# EAGLE library part HIP4080 (library audioint)
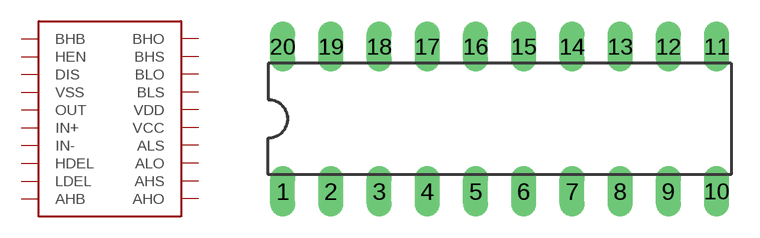
[diagram p25: symbol with the pads of 20-PDIP; footprint 20-PDIP]

Designator prefix -

## HIP4080  [20-PDIP]
1  BHB
2  HEN
3  DIS
4  VSS
5  OUT
6  IN+
7  IN-
8  HDEL
9  LDEL
10  AHB
11  AHO
12  AHS
13  ALO
14  ALS
15  VCC
16  VDD
17  BLS
18  BLO
19  BHS
20  BHO

## Footprint 20-PDIP (pad centres in mm)
drill 0.813 long: 1 -11.43,-3.81; 2 -8.89,-3.81; 3 -6.35,-3.81; 4 -3.81,-3.81; 5 -1.27,-3.81; 6 1.27,-3.81; 7 3.81,-3.81; 8 6.35,-3.81; 9 8.89,-3.81; 10 11.43,-3.81; 11 11.43,3.81; 12 8.89,3.81; 13 6.35,3.81; 14 3.81,3.81; 15 1.27,3.81; 16 -1.27,3.81; 17 -3.81,3.81; 18 -6.35,3.81; 19 -8.89,3.81; 20 -11.43,3.81